# Altium integrated library WS-TATU 6x6 mm THT right angled with ground terminal.IntLib: 12 symbols
Pins are listed as number, name and electrical type; pins without a type are passive.

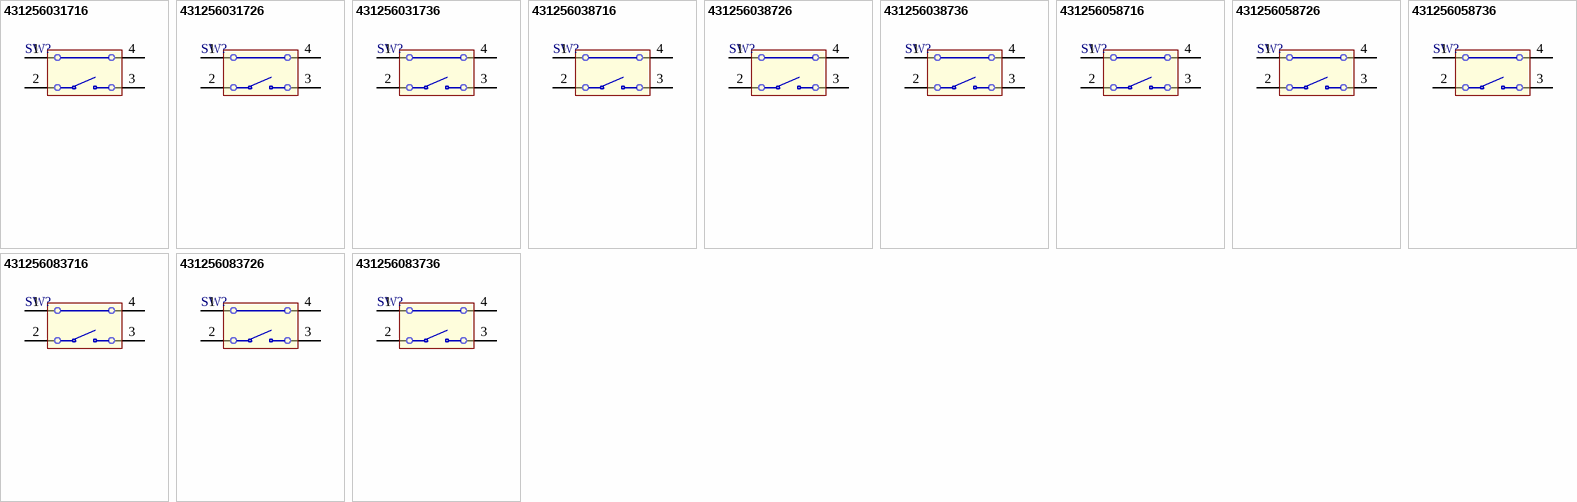
[diagram p0: symbols 431256031716 to 431256083736]

## 431256031716
designator SW?
WS-TATU THT Tact Switch 6X6 mm right angle type with ground terminal; PartNumber: 431256031716; NoPins: 04; PackageReference: 431256031716; ComponentLink1Description: Manufacturer URL; ComponentLink1URL: http://www.we-online.com; ComponentLink2Description: Datasheet; ComponentLink2URL: http://katalog.we-online.de/em/datasheet/43125603x.pdf
footprint 431256031716 (6*6mm right-angled,THT, height 3.15mm, black actuator, 160gf, Bulk)
pins: 1, 2, 3, 4

## 431256031726
designator SW?
WS-TATU THT Tact Switch 6X6 mm right angle type with ground terminal; PartNumber: 431256031726; NoPins: 04; PackageReference: 431256031726; ComponentLink1Description: Manufacturer URL; ComponentLink1URL: http://www.we-online.com; ComponentLink2Description: Datasheet; ComponentLink2URL: http://katalog.we-online.de/em/datasheet/43125603x.pdf
footprint 431256031726 (6*6mm right-angled,THT, height 3.15mm, white actuator, 260gf, Bulk)
pins: 1, 2, 3, 4

## 431256031736
designator SW?
WS-TATU THT Tact Switch 6X6 mm right angle type with ground terminal; PartNumber: 431256031736; NoPins: 04; PackageReference: 431256031736; ComponentLink1Description: Manufacturer URL; ComponentLink1URL: http://www.we-online.com; ComponentLink2Description: Datasheet; ComponentLink2URL: http://katalog.we-online.de/em/datasheet/43125603x.pdf
footprint 431256031736 (6*6mm right-angled,THT, height 3.15mm, salmon actuator, 360gf, Bulk)
pins: 1, 2, 3, 4

## 431256038716
designator SW?
WS-TATU THT Tact Switch 6X6 mm right angle type with ground terminal; PartNumber: 431256038716; NoPins: 04; PackageReference: 431256038716; ComponentLink1Description: Manufacturer URL; ComponentLink1URL: http://www.we-online.com; ComponentLink2Description: Datasheet; ComponentLink2URL: http://katalog.we-online.de/em/datasheet/43125603x.pdf
footprint 431256038716 (6*6mm right-angled,THT, height 3.85mm, black actuator, 160gf, Bulk)
pins: 1, 2, 3, 4

## 431256038726
designator SW?
WS-TATU THT Tact Switch 6X6 mm right angle type with ground terminal; PartNumber: 431256038726; NoPins: 04; PackageReference: 431256038726; ComponentLink1Description: Manufacturer URL; ComponentLink1URL: http://www.we-online.com; ComponentLink2Description: Datasheet; ComponentLink2URL: http://katalog.we-online.de/em/datasheet/43125603x.pdf
footprint 431256038726 (6*6mm right-angled,THT, height 3.85mm, white actuator, 260gf, Bulk)
pins: 1, 2, 3, 4

## 431256038736
designator SW?
WS-TATU THT Tact Switch 6X6 mm right angle type with ground terminal; PartNumber: 431256038736; NoPins: 04; PackageReference: 431256038736; ComponentLink1Description: Manufacturer URL; ComponentLink1URL: http://www.we-online.com; ComponentLink2Description: Datasheet; ComponentLink2URL: http://katalog.we-online.de/em/datasheet/43125603x.pdf
footprint 431256038736 (6*6mm right-angled,THT, height 3.85mm, salmon actuator, 360gf, Bulk)
pins: 1, 2, 3, 4

## 431256058716
designator SW?
WS-TATU THT Tact Switch 6X6 mm right angle type with ground terminal; PartNumber: 431256058716; NoPins: 04; PackageReference: 431256058716; ComponentLink1Description: Manufacturer URL; ComponentLink1URL: http://www.we-online.com; ComponentLink2Description: Datasheet; ComponentLink2URL: http://katalog.we-online.de/em/datasheet/43125603x.pdf
footprint 431256058716 (6*6mm right angle Tact switch,THT, height 5.85mm, black actuator, 160gf, Bulk)
pins: 1, 2, 3, 4

## 431256058726
designator SW?
WS-TATU THT Tact Switch 6X6 mm right angle type with ground terminal; PartNumber: 431256058726; NoPins: 04; PackageReference: 431256058726; ComponentLink1Description: Manufacturer URL; ComponentLink1URL: http://www.we-online.com; ComponentLink2Description: Datasheet; ComponentLink2URL: http://katalog.we-online.de/em/datasheet/43125603x.pdf
footprint 431256058726 (6*6mm right angle Tact switch,THT, height 5.85mm, white actuator, 260gf, Bulk)
pins: 1, 2, 3, 4

## 431256058736
designator SW?
WS-TATU THT Tact Switch 6X6 mm right angle type with ground terminal; PartNumber: 431256058736; NoPins: 04; PackageReference: 431256058736; ComponentLink1Description: Manufacturer URL; ComponentLink1URL: http://www.we-online.com; ComponentLink2Description: Datasheet; ComponentLink2URL: http://katalog.we-online.de/em/datasheet/43125603x.pdf
footprint 431256058736 (6*6mm right angle Tact switch,THT, height 5.85mm, salmon actuator, 360gf, Bulk)
pins: 1, 2, 3, 4

## 431256083716
designator SW?
WS-TATU THT Tact Switch 6X6 mm right angle type with ground terminal; PartNumber: 431256083716; NoPins: 04; PackageReference: 431256083716; ComponentLink1Description: Manufacturer URL; ComponentLink1URL: http://www.we-online.com; ComponentLink2Description: Datasheet; ComponentLink2URL: http://katalog.we-online.de/em/datasheet/43125603x.pdf
footprint 431256083716 (6*6mm right angle Tact switch,THT, height 8.35mm, black actuator, 160gf, Bulk)
pins: 1, 2, 3, 4

## 431256083726
designator SW?
WS-TATU THT Tact Switch 6X6 mm right angle type with ground terminal; PartNumber: 431256083726; NoPins: 04; PackageReference: 431256083726; ComponentLink1Description: Manufacturer URL; ComponentLink1URL: http://www.we-online.com; ComponentLink2Description: Datasheet; ComponentLink2URL: http://katalog.we-online.de/em/datasheet/43125603x.pdf
footprint 431256083726 (6*6mm right angle Tact switch,THT, height 8.35mm, white actuator, 260gf, Bulk)
pins: 1, 2, 3, 4

## 431256083736
designator SW?
WS-TATU THT Tact Switch 6X6 mm right angle type with ground terminal; PartNumber: 431256083736; NoPins: 04; PackageReference: 431256083736; ComponentLink1Description: Manufacturer URL; ComponentLink1URL: http://www.we-online.com; ComponentLink2Description: Datasheet; ComponentLink2URL: http://katalog.we-online.de/em/datasheet/43125603x.pdf
footprint 431256083736 (6*6mm right angle Tact switch,THT, height 8.35mm, salmon actuator, 360gf, Bulk)
pins: 1, 2, 3, 4